# Altium footprint library F429.PcbLib: 61 footprints (part 3 of 4)
Each footprint in its own frame and in the unit in brackets; x right, y up, seen from the top. Pads: shape width x height; smd on the part's side, far side on the other; paste and mask are expansions set on the pad; w line width, h text height; cw(c..) or ccw(c..) is an arc to the next point about the centre after c.
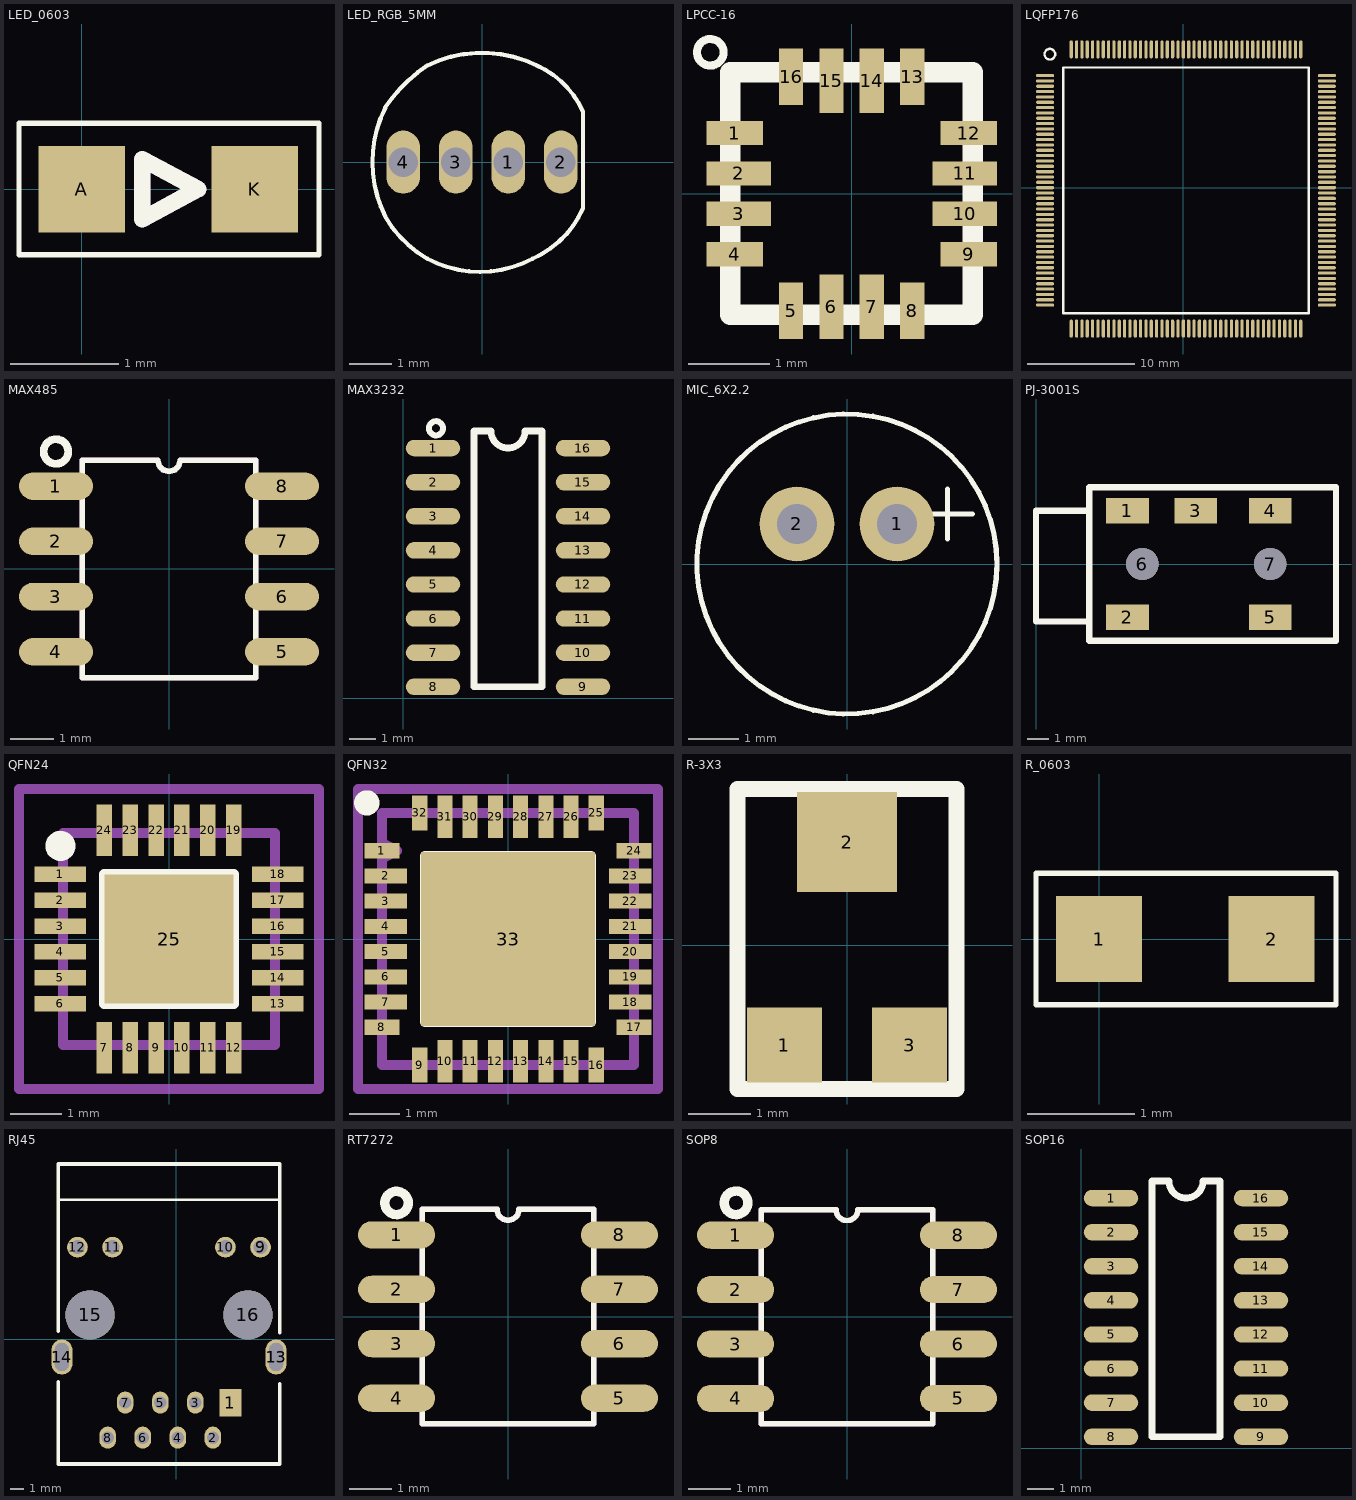
[diagram p2: the footprints below, top view; thin cyan lines are the x and y axes]

## LED_0603 [mm]
pads (2):
  rect 0.8x0.8 smd: A(0,0) K(1.6,0)
Top Overlay:
  lines w0.051: -0.579,-0.605 2.193,-0.605 2.193,0.607 -0.579,0.607 -0.579,-0.605
  lines w0.152: 0.562,-0.277 1.076,0.001 0.562,0.277 0.562,-0.277
Mechanical 1:
  lines w0.152: 0.562,-0.277 1.076,0.001 0.562,0.277 0.562,-0.277

## LED_RGB_5MM [mm]
pads (4):
  oval 0.8x1.5 hole 0.7: 1(0.625,0) 2(1.875,0) 3(-0.625,0) 4(-1.875,0)
Top Overlay:
  lines w0.1: -2.301,1.297 ccw(c0.3,0) -2.299,-1.302 ; -2.299,-1.301 ccw(c0.05,0.05) -1.301,-2.299 ; -2.299,1.302 cw(c0.65,-0.65) -1.297,2.302 ; -1.3,-2.3 ccw(c-0.05,0.05) 1.2,-2.3 ; -1.299,2.301 cw(c0,-0.35) 1.303,2.298 ; 1.202,-2.299 ccw(c0.25,-0.15) 2.401,-1.099 ; 1.302,2.299 cw(c0.45,0.35) 2.401,1.198 ; 2.4,-1.1 2.4,1.2

## LPCC-16 [mm]
pads (16):
  rect 0.7x0.3 smd: 1(-1.45,0.75) 4(-1.45,-0.75) 9(1.45,-0.75) 12(1.45,0.75)
  rect 0.8x0.3 smd: 2(-1.4,0.25) 3(-1.4,-0.25) 10(1.4,-0.25) 11(1.4,0.25)
  rect 0.3x0.7 smd: 5(-0.75,-1.45) 8(0.75,-1.45) 13(0.75,1.45) 16(-0.75,1.45)
  rect 0.3x0.8 smd: 6(-0.25,-1.4) 7(0.25,-1.4) 14(0.25,1.4) 15(-0.25,1.4)
Top Overlay:
  circle w0.1: c-1.75,1.75 r0.165
  lines w0.254: -1.5,-1.5 1.5,-1.5 1.5,1.5 -1.5,1.5 -1.5,-1.5

## LQFP176 [mm]
pads (176):
  oval 1.7x0.3 smd: 1(-12.95,10.5) 2(-12.95,10) 3(-12.95,9.5) 4(-12.95,9) 5(-12.95,8.5) 6(-12.95,8) 7(-12.95,7.5) 8(-12.95,7) 9(-12.95,6.5) 10(-12.95,6) 11(-12.95,5.5) 12(-12.95,5) 13(-12.95,4.5) 14(-12.95,4) 15(-12.95,3.5) 16(-12.95,3) 17(-12.95,2.5) 18(-12.95,2) 19(-12.95,1.5) 20(-12.95,1) 21(-12.95,0.5) 22(-12.95,0) 23(-12.95,-0.5) 24(-12.95,-1) 25(-12.95,-1.5) 26(-12.95,-2) 27(-12.95,-2.5) 28(-12.95,-3) 29(-12.95,-3.5) 30(-12.95,-4) 31(-12.95,-4.5) 32(-12.95,-5) 33(-12.95,-5.5) 34(-12.95,-6) 35(-12.95,-6.5) 36(-12.95,-7) 37(-12.95,-7.5) 38(-12.95,-8) 39(-12.95,-8.5) 40(-12.95,-9) 41(-12.95,-9.5) 42(-12.95,-10) 43(-12.95,-10.5) 44(-12.95,-11) 89(13.45,-11) 90(13.45,-10.5) 91(13.45,-10) 92(13.45,-9.5) 93(13.45,-9) 94(13.45,-8.5) 95(13.45,-8) 96(13.45,-7.5) 97(13.45,-7) 98(13.45,-6.5) 99(13.45,-6) 100(13.45,-5.5) 101(13.45,-5) 102(13.45,-4.5) 103(13.45,-4) 104(13.45,-3.5) 105(13.45,-3) 106(13.45,-2.5) 107(13.45,-2) 108(13.45,-1.5) 109(13.45,-1) 110(13.45,-0.5) 111(13.45,0) 112(13.45,0.5) 113(13.45,1) 114(13.45,1.5) 115(13.45,2) 116(13.45,2.5) 117(13.45,3) 118(13.45,3.5) 119(13.45,4) 120(13.45,4.5) 121(13.45,5) 122(13.45,5.5) 123(13.45,6) 124(13.45,6.5) 125(13.45,7) 126(13.45,7.5) 127(13.45,8) 128(13.45,8.5) 129(13.45,9) 130(13.45,9.5) 131(13.45,10) 132(13.45,10.5)
  oval 0.3x1.7 smd: 45(-10.5,-13.2) 46(-10,-13.2) 47(-9.5,-13.2) 48(-9,-13.2) 49(-8.5,-13.2) 50(-8,-13.2) 51(-7.5,-13.2) 52(-7,-13.2) 53(-6.5,-13.2) 54(-6,-13.2) 55(-5.5,-13.2) 56(-5,-13.2) 57(-4.5,-13.2) 58(-4,-13.2) 59(-3.5,-13.2) 60(-3,-13.2) 61(-2.5,-13.2) 62(-2,-13.2) 63(-1.5,-13.2) 64(-1,-13.2) 65(-0.5,-13.2) 66(0,-13.2) 67(0.5,-13.2) 68(1,-13.2) 69(1.5,-13.2) 70(2,-13.2) 71(2.5,-13.2) 72(3,-13.2) 73(3.5,-13.2) 74(4,-13.2) 75(4.5,-13.2) 76(5,-13.2) 77(5.5,-13.2) 78(6,-13.2) 79(6.5,-13.2) 80(7,-13.2) 81(7.5,-13.2) 82(8,-13.2) 83(8.5,-13.2) 84(9,-13.2) 85(9.5,-13.2) 86(10,-13.2) 87(10.5,-13.2) 88(11,-13.2) 133(11,12.95) 134(10.5,12.95) 135(10,12.95) 136(9.5,12.95) 137(9,12.95) 138(8.5,12.95) 139(8,12.95) 140(7.5,12.95) 141(7,12.95) 142(6.5,12.95) 143(6,12.95) 144(5.5,12.95) 145(5,12.95) 146(4.5,12.95) 147(4,12.95) 148(3.5,12.95) 149(3,12.95) 150(2.5,12.95) 151(2,12.95) 152(1.5,12.95) 153(1,12.95) 154(0.5,12.95) 155(0,12.95) 156(-0.5,12.95) 157(-1,12.95) 158(-1.5,12.95) 159(-2,12.95) 160(-2.5,12.95) 161(-3,12.95) 162(-3.5,12.95) 163(-4,12.95) 164(-4.5,12.95) 165(-5,12.95) 166(-5.5,12.95) 167(-6,12.95) 168(-6.5,12.95) 169(-7,12.95) 170(-7.5,12.95) 171(-8,12.95) 172(-8.5,12.95) 173(-9,12.95) 174(-9.5,12.95) 175(-10,12.95) 176(-10.5,12.95)
Top Overlay:
  circle w0.22: c-12.5,12.5 r0.5
  lines w0.22: -11.25,-11.75 11.75,-11.75 11.75,11.25 -11.25,11.25 -11.25,-11.75

## MAX485 [mm]
pads (8):
  oval 1.7x0.635 smd: 1(-2.6,1.905) 2(-2.6,0.635) 3(-2.6,-0.635) 4(-2.6,-1.905) 5(2.6,-1.905) 6(2.6,-0.635) 7(2.6,0.635) 8(2.6,1.905)
Top Overlay:
  circle w0.178: c-2.6,2.7 r0.283
  lines w0.127: -2,-2.5 -2,2.5 -0.254,2.5 ccw(c0,2.5) 0.254,2.5 2,2.5 2,-2.5 -2,-2.5
Mechanical 1:
  lines w0.127: -2,-2.5 -2,2.5 -0.254,2.5 ccw(c0,2.5) 0.254,2.5 2,2.5 2,-2.5 -2,-2.5

## MAX3232 [mil]
pads (16):
  oval 80x24 smd: 1(44,367) 2(44,317) 3(44,267) 4(44,217) 5(44,167) 6(44,117) 7(44,67) 8(44,17) 9(264,17) 10(264,67) 11(264,117) 12(264,167) 13(264,217) 14(264,267) 15(264,317) 16(264,367)
Top Overlay:
  circle w8.66: c48.43,396.06 r10.39
  lines w10: 104,17 204,17 204,392 179,392 cw(c154,392) 129,392 104,392 104,17

## MIC_6X2.2 [mm]
pads (2):
  round 1.5 hole 0.8: 1(1,0.8) 2(-1,0.8)
Top Overlay:
  circle w0.102: c0,0 r3
  lines w0.102: 1.506,0.997 2.506,0.997 ; 2.006,0.497 2.006,1.497

## PJ-3001S [mm]
pads (7):
  rect 2x1.2 all layers, no hole: 1(4.3,2.5) 2(4.3,-2.5) 3(7.5,2.5) 4(11,2.5) 5(11,-2.5)
  round 1.524 hole 1.524 unplated: 6(5,0) 7(11,0)
Top Overlay:
  lines w0.3: 0,-2.7 0,2.5 2.5,2.5 ; 0.1,-2.7 2.5,-2.7 ; 2.5,-3.6 14.1,-3.6 14.1,3.6 2.5,3.6 2.5,-3.6

## QFN24 [mm]
height 1.27
pads (25):
  rect 1x0.3 smd: 1(-2.1,1.25) 2(-2.1,0.75) 3(-2.1,0.25) 4(-2.1,-0.25) 5(-2.1,-0.75) 6(-2.1,-1.25) 13(2.1,-1.25) 14(2.1,-0.75) 15(2.1,-0.25) 16(2.1,0.25) 17(2.1,0.75) 18(2.1,1.25)
  rect 0.3x1 smd: 7(-1.25,-2.1) 8(-0.75,-2.1) 9(-0.25,-2.1) 10(0.25,-2.1) 11(0.75,-2.1) 12(1.25,-2.1) 19(1.25,2.1) 20(0.75,2.1) 21(0.25,2.1) 22(-0.25,2.1) 23(-0.75,2.1) 24(-1.25,2.1)
  rrect0% 2.5x2.5 smd: 25(0,0)
Top Overlay:
  circle w0.3: c-2.1,1.8 r0.141
  lines w0.2: -1.25,-1.25 1.25,-1.25 1.25,1.25 -1.25,1.25 -1.25,-1.25
Mechanical 1:
  lines w0.2: -2.05,-2.05 2.05,-2.05 2.05,2.05 -2.05,2.05 -2.05,-2.05
Mechanical 16:
  lines w0.2: -0.5,0 0,0 ; 0,-0.5 0,0 ; 0,0.5 0,0 ; 0.5,0 0,0 ; -2.9,-2.9 2.9,-2.9 2.9,2.9 -2.9,2.9 -2.9,-2.9

## QFN32 [mm]
height 1.27
pads (33):
  rect 0.7x0.3 smd: 1(-2.5,1.75) 8(-2.5,-1.75) 17(2.5,-1.75) 24(2.5,1.75)
  rect 0.85x0.3 smd: 2(-2.425,1.25) 3(-2.425,0.75) 4(-2.425,0.25) 5(-2.425,-0.25) 6(-2.425,-0.75) 7(-2.425,-1.25) 18(2.425,-1.25) 19(2.425,-0.75) 20(2.425,-0.25) 21(2.425,0.25) 22(2.425,0.75) 23(2.425,1.25)
  rect 0.3x0.7 smd: 9(-1.75,-2.5) 16(1.75,-2.5) 25(1.75,2.5) 32(-1.75,2.5)
  rect 0.3x0.85 smd: 10(-1.25,-2.425) 11(-0.75,-2.425) 12(-0.25,-2.425) 13(0.25,-2.425) 14(0.75,-2.425) 15(1.25,-2.425) 26(1.25,2.425) 27(0.75,2.425) 28(0.25,2.425) 29(-0.25,2.425) 30(-0.75,2.425) 31(-1.25,2.425)
  rrect0% 3.45x3.45 smd: 33(0,0)
Top Overlay:
  circle w0.3: c-2.8,2.7 r0.1
  lines w0.2: -1.65,-1.65 1.65,-1.65 1.65,1.65 -1.65,1.65 -1.65,-1.65
Mechanical 1:
  lines w0.2: -2.5,-2.5 2.5,-2.5 2.5,2.5 -2.5,2.5 -2.5,1.9 -2.2,1.75 -2.5,1.6 -2.5,-2.5
Mechanical 16:
  lines w0.2: -0.5,0 0,0 ; 0,-0.5 0,0 ; 0,0.5 0,0 ; 0.5,0 0,0 ; -2.975,-2.975 2.975,-2.975 2.975,2.975 -2.975,2.975 -2.975,-2.975

## R-3X3 [mm]
pads (3):
  rrect0% 1.2x1.2 smd: 1(-1,-1.6) 3(1,-1.6)
  rrect0% 1.6x1.6 smd: 2(0,1.65)
Top Overlay:
  lines w0.254: -1.75,2.5 -1.75,-2.3 1.75,-2.3 1.75,2.5 -1.7,2.5

## R_0603 [mm]
pads (2):
  rect 0.8x0.8 smd: 1(0,0) 2(1.6,0)
Top Overlay:
  lines w0.051: -0.584,-0.61 2.197,-0.61 2.197,0.61 -0.584,0.61 -0.584,-0.61

## RJ45 [mm]
pads (16):
  rect 1.6x2 all layers, no hole: 1(3.942,-4.572)
  oval 1.2x1.6 hole 0.89: 2(2.672,-7.112) 3(1.402,-4.572) 4(0.132,-7.112) 5(-1.138,-4.572) 6(-2.408,-7.112) 7(-3.678,-4.572) 8(-4.948,-7.112)
  round 1.5 hole 1.02: 9(6.117,6.678) 10(3.577,6.678) 11(-4.593,6.678) 12(-7.133,6.678)
  oval 1.524x2.54 hole 1.016 slot 2.032 at 90 deg: 13(7.242,-1.272) 14(-8.258,-1.272)
  round 3.556 hole 3.556: 15(-6.223,1.778) 16(5.207,1.778)
Top Overlay:
  lines w0.2: -8.508,10.103 7.492,10.103
  lines w0.254: -8.508,-3.069 -8.508,-9.017 7.492,-9.017 7.492,-3.2 ; -8.508,0.575 -8.508,12.698 7.492,12.698 7.492,0.481

## RT7272 [mm]
pads (8):
  oval 1.8x0.635 smd: 1(-2.6,1.905) 2(-2.6,0.635) 3(-2.6,-0.635) 4(-2.6,-1.905) 5(2.6,-1.905) 6(2.6,-0.635) 7(2.6,0.635) 8(2.6,1.905)
Top Overlay:
  circle w0.22: c-2.6,2.65 r0.272
  lines w0.127: -2,-2.5 -2,2.5 -0.254,2.5 ccw(c0,2.5) 0.254,2.5 2,2.5 2,-2.5 -2,-2.5
Mechanical 1:
  lines w0.127: -2,-2.5 -2,2.5 -0.254,2.5 ccw(c0,2.5) 0.254,2.5 2,2.5 2,-2.5 -2,-2.5

## SOP8 [mm]
pads (8):
  oval 1.8x0.635 smd: 1(-2.6,1.905) 2(-2.6,0.635) 3(-2.6,-0.635) 4(-2.6,-1.905) 5(2.6,-1.905) 6(2.6,-0.635) 7(2.6,0.635) 8(2.6,1.905)
Top Overlay:
  circle w0.22: c-2.59,2.66 r0.276
  lines w0.127: -2,-2.5 -2,2.5 -0.254,2.5 ccw(c0,2.5) 0.254,2.5 2,2.5 2,-2.5 -2,-2.5
Mechanical 1:
  lines w0.127: -2,-2.5 -2,2.5 -0.254,2.5 ccw(c0,2.5) 0.254,2.5 2,2.5 2,-2.5 -2,-2.5

## SOP16 [mil]
pads (16):
  oval 80x24 smd: 1(44,367) 2(44,317) 3(44,267) 4(44,217) 5(44,167) 6(44,117) 7(44,67) 8(44,17) 9(264,17) 10(264,67) 11(264,117) 12(264,167) 13(264,217) 14(264,267) 15(264,317) 16(264,367)
Top Overlay:
  lines w10: 104,17 204,17 204,392 179,392 cw(c154,392) 129,392 104,392 104,17